# EAGLE library part 7499211125 (library 7499211125)
Through Hole Lan Ethernet Transformer, 16 x 13.55 x 21.3mm, -40 +85 C Source: Datasheet <https://katalog.we-online.de/pbs/datasheet/7499211125.pdf>
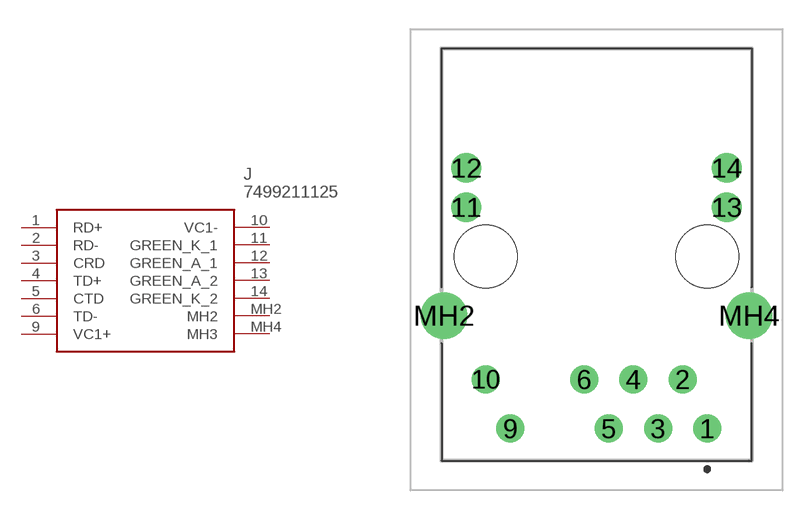
[diagram p0: symbol with the pads of 7499211125; footprint 7499211125]

Designator prefix J

## 7499211125 (Description: Through Hole Lan Ethernet Transformer, 16 x 13.55 x 21.3mm, -40 +85 C; Height: 15.25mm; Manufacturer_Name: Wurth Elektronik; Manufacturer_Part_Number: 7499211125; Mouser_Part_Number: 710-7499211125; Mouser_Price-Stock: https://www.mouser.co.uk/ProductDetail/Wurth-Elektronik/7499211125?qs=SaTeGCoDkn2NnZ3LHUY8uQ%3D%3D)  [7499211125]
1  RD+
2  RD-
3  CRD
4  TD+
5  CTD
6  TD-
9  VC1+
10  VC1-
11  GREEN_K_1
12  GREEN_A_1
13  GREEN_A_2
14  GREEN_K_2
MH2  MH2
MH4  MH3

## Footprint 7499211125 (pad centres in mm)
7499211125
drill 0.89 pad 1.446: 1 0,0; 2 -1.27,2.54; 3 -2.54,0; 4 -3.81,2.54; 5 -5.08,0; 6 -6.35,2.54; 9 -10.16,0; 10 -11.43,2.54
drill 1.02 pad 1.53: 11 -12.44,11.43; 12 -12.44,13.46; 13 1.01,11.43; 14 1.01,13.46
drill 1.6 pad 2.4: MH2 -13.59,5.84; MH4 2.16,5.84
hole 3.25 at -11.43,8.89
hole 3.25 at 0,8.89